# Altium integrated library ERJP08F3300V.IntLib: 1 symbol
Pins are listed as number, name and electrical type; pins without a type are passive.

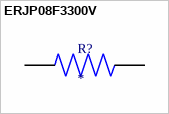
[diagram p0: symbol ERJP08F3300V]

## ERJP08F3300V
designator R?
MP: ERJP08F3300V; Package: None; Price: None; Availability: Unavailable; Value: *
footprint RES_ERJP08F3300V
pins: 1, 2